# EAGLE library part WE-LAN_1000_BASETX_749023020 (library Wuerth_Elektronik_eiSos_ v6.0)
LAN-Transformer WE-LAN 1000 Base Tx - Compliant with IEEE 802.3 standards - SMD -- Ethernet -- Power over Ethernet -- 1 Gigabit Ethernet -- Compliant with most IC's for ethernet applications like Intel, AMD, Globespan and Realtek -- Hub, Router, Switch
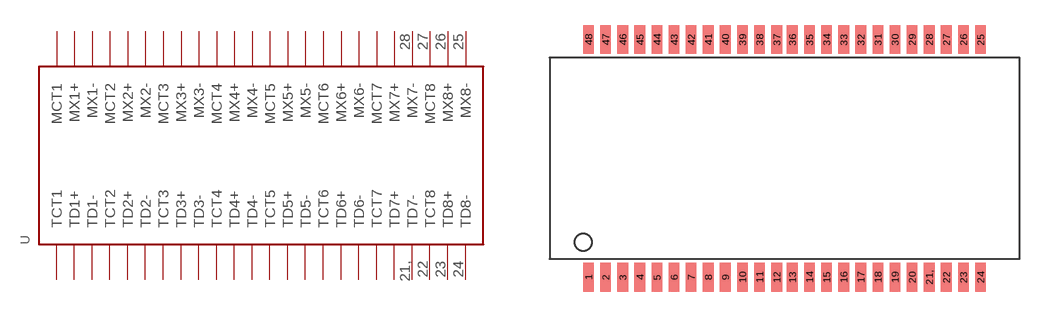
[diagram p37: symbol with the pads of WE-LAN_1000_BASETX_74902002X_749023020; footprint WE-LAN_1000_BASETX_74902002X_749023020]

Designator prefix -

## WE-LAN_1000_BASETX_749023020749023020  [WE-LAN_1000_BASETX_74902002X_749023020]
1  TCT1  pas
2  TD1+  pas
3  TD1-  pas
4  TCT2  pas
5  TD2+  pas
6  TD2-  pas
7  TCT3  pas
8  TD3+  pas
9  TD3-  pas
10  TCT4  pas
11  TD4+  pas
12  TD4-  pas
13  TCT5  pas
14  TD5+  pas
15  TD5-  pas
16  TCT6  pas
17  TD6+  pas
18  TD6-  pas
19  TCT7  pas
20  TD7+  pas
21,  TD7-  pas
22  TCT8  pas
23  TD8+  pas
24  TD8-  pas
25  MX8-  pas
26  MX8+  pas
27  MCT8  pas
28  MX7-  pas
29  MX7+  pas
30  MCT7  pas
31  MX6-  pas
32  MX6+  pas
33  MCT6  pas
34  MX5-  pas
35  MX5+  pas
36  MCT5  pas
37  MX4-  pas
38  MX4+  pas
39  MCT4  pas
40  MX3-  pas
41  MX3+  pas
42  MCT3  pas
43  MX2-  pas
44  MX2+  pas
45  MCT2  pas
46  MX1-  pas
47  MX1+  pas
48  MCT1  pas

## Footprint WE-LAN_1000_BASETX_74902002X_749023020 (pad centres in mm)
WE-LAN 1000 BaseTx
smd 0.64 x 1.715: 1 -11.685,-7.082; 2 -10.665,-7.082; 3 -9.645,-7.082; 4 -8.625,-7.082; 5 -7.605,-7.082; 6 -6.585,-7.082; 7 -5.567,-7.082; 8 -4.547,-7.082; 9 -3.527,-7.082; 10 -2.507,-7.082; 11 -1.487,-7.082; 12 -0.467,-7.082; 13 0.467,-7.082; 14 1.487,-7.082; 15 2.507,-7.082; 16 3.527,-7.082; 17 4.547,-7.082; 18 5.567,-7.082; 19 6.585,-7.082; 20 7.605,-7.082; 21, 8.625,-7.082; 22 9.645,-7.082; 23 10.665,-7.082; 24 11.685,-7.082; 25 11.685,7.082; 26 10.665,7.082; 27 9.645,7.082; 28 8.625,7.082; 29 7.605,7.082; 30 6.585,7.082; 31 5.567,7.082; 32 4.547,7.082; 33 3.527,7.082; 34 2.507,7.082; 35 1.487,7.082; 36 0.467,7.082; 37 -0.467,7.082; 38 -1.487,7.082; 39 -2.507,7.082; 40 -3.527,7.082; 41 -4.547,7.082; 42 -5.567,7.082; 43 -6.585,7.082; 44 -7.605,7.082; 45 -8.625,7.082; 46 -9.645,7.082; 47 -10.665,7.082; 48 -11.685,7.082